# Altium integrated library 5277.IntLib: 1 symbol
Pins are listed as number, name and electrical type; pins without a type are passive.

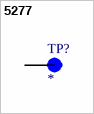
[diagram p0: symbol 5277]

## 5277
designator TP?
TEST POINT (BLUE) - COMPACT; MF: Keystone Electronics; MP: 5277; SnapEDA_Link: https://www.snapeda.com/parts/5277/Keystone/view-part/?ref=snap; Package: None; Value: *; Check_prices: https://www.snapeda.com/parts/5277/Keystone/view-part/?ref=eda
footprint KEYSTONE_5277
pins: 1 TP